# Altium schematic symbol library CME0303S3C.SchLib: 1 symbol
Pins are listed as number, name and electrical type; pins without a type are passive.

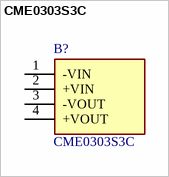
[diagram p0: symbol CME0303S3C]

## CME0303S3C
designator B?
Murata Power Solutions CME 0.75W Isolated DC-DC Converter Through Hole, Vin 2.97  3.63 V dc, Vout 3.3V dc; Manufacturer_Name: Murata Electronics; Geometry.Height: 7.71mm; Manufacturer_Part_Number: CME0303S3C; Mouser Part Number: 580-CME0303S3C; Mouser Price/Stock: https://www.mouser.co.uk/ProductDetail/Murata-Power-Solutions/CME0303S3C?qs=XKx0tEJeiQ3UXTrSkJqzTw%3D%3D; Arrow Part Number: CME0303S3C; Arrow Price/Stock: https://www.arrow.com/en/products/cme0303s3c/murata-power-solutions?region=nac; Datasheet Link: https://www.murata.com/products/productdata/8807029342238/kdc-cme.pdf?1614569448000
footprint CME0303S3C
pins: 1 -VIN, 2 +VIN, 3 -VOUT, 4 +VOUT